# Altium footprint library Voltage Regulators Through Hole.PcbLib: 3 footprints
Each footprint in its own frame and in the unit in brackets; x right, y up, seen from the top. Pads: shape width x height; smd on the part's side, far side on the other; paste and mask are expansions set on the pad; w line width, h text height; cw(c..) or ccw(c..) is an arc to the next point about the centre after c.
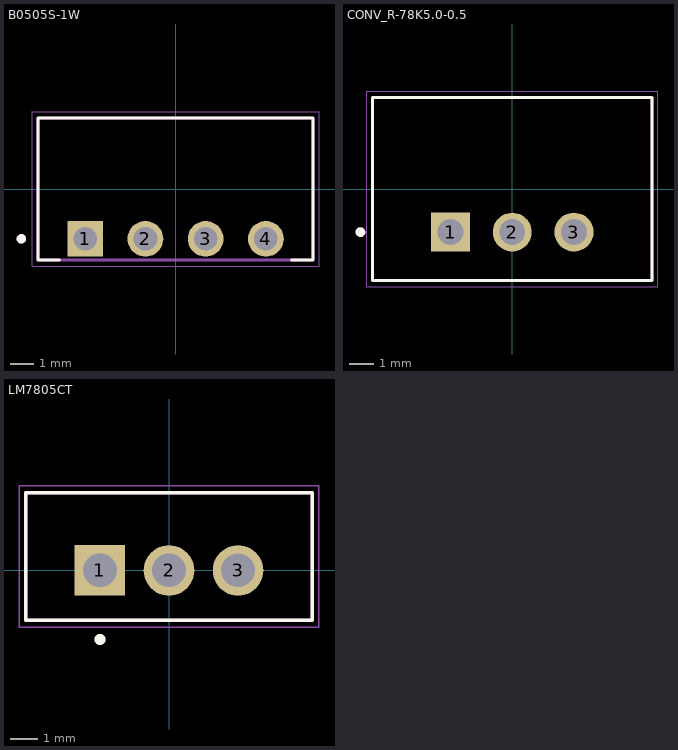
[diagram p0: the footprints below, top view; thin cyan lines are the x and y axes]

## B0505S-1W [mm]
height 10.41
pads (4):
  rect 1.508x1.508 / inner round 1.508 / far side rect 1.508x1.508 hole 1: 1(-3.81,-2.1)
  round 1.508 hole 1: 2(-1.27,-2.1) 3(1.27,-2.1) 4(3.81,-2.1)
Top Overlay:
  circle w0.2: c-6.5,-2.1 r0.1
  lines w0.127: -4.9,-3 -5.8,-3 -5.8,3 5.8,3 5.8,-3 4.9,-3
Mechanical 13:
  circle w0.2: c-6.5,-2.1 r0.1
  lines w0.127: -5.8,-3 -5.8,3 5.8,3 5.8,-3 -5.8,-3
Mechanical 15:
  lines w0.05: -6.05,-3.25 6.05,-3.25 6.05,3.25 -6.05,3.25 -6.05,-3.25
3D body "step_temp.STEP": height 10.16, standoff -4.1, extent -5.8,-3 5.8,3

## CONV_R-78K5.0-0.5 [mm]
height 10.7
pads (3):
  rect 1.605x1.605 / inner round 1.605 / far side rect 1.605x1.605 hole 1.07: 1(-2.54,-1.775)
  round 1.605 hole 1.07: 2(0,-1.775) 3(2.54,-1.775)
Top Overlay:
  circle w0.2: c-6.25,-1.775 r0.1
  lines w0.127: -5.75,-3.775 -5.75,3.775 5.75,3.775 5.75,-3.775 -5.75,-3.775
Mechanical 13:
  circle w0.2: c-6.25,-1.775 r0.1
  lines w0.127: -5.75,-3.775 -5.75,3.775 5.75,3.775 5.75,-3.775 -5.75,-3.775
Mechanical 15:
  lines w0.05: -6,-4.025 6,-4.025 6,4.025 -6,4.025 -6,-4.025
3D body "step_temp.STEP": height 10.2, standoff -4.1, extent -5.75,-3.775 5.75,3.775

## LM7805CT [mm]
pads (3):
  rect 1.86x1.86 hole 1.24: 1(-2.54,0)
  round 1.86 hole 1.24: 2(0,0) 3(2.54,0)
Top Overlay:
  circle w0.2: c-2.54,-2.54 r0.1
  lines w0.127: -5.27,-1.84 5.27,-1.84 5.27,2.86 -5.27,2.86 -5.27,-1.84
Mechanical 13:
  circle w0.2: c-2.54,-2.54 r0.1
  lines w0.127: -5.27,-1.84 5.27,-1.84 5.27,2.86 -5.27,2.86 -5.27,-1.84
Mechanical 15:
  lines w0.05: -5.52,-2.09 5.52,-2.09 5.52,3.11 -5.52,3.11 -5.52,-2.09